# EAGLE library part 6273XX20621_62734020621 (library WR-BHD)
WR-BHD 1.27 mm Male SMT Box Header KIND PROPERTIES: Pitch 1.27 mm Gender:Male MATERIAL PROPERTIES: Insulator Material Nylon 9T Insulator Flammability Rating UL94 V-0 Insulator Color Black Contact Material Brass Contact Plating Gold over Nickel GENERAL INFORMATION: Operating Temperature -40 up to +105 °C Working Voltage 50 V (AC) Withstanding Voltage 500 V (AC) Contact Resistance 20 mΩ RISO 1000 MΩ CERTIFICATION: UL Approval E323964 <https://www.we-online.com/catalog/media/o375406v209%20Family_WR-BHD_6270xx20621.jpg> Details see: https://www.we-online.com/catalog/en/WR_BHD_1_27_MM_MALE_SMT_BOX_HEADER Created by Ella Wu 2021-08-24 2021 (C) Würth Elektronik
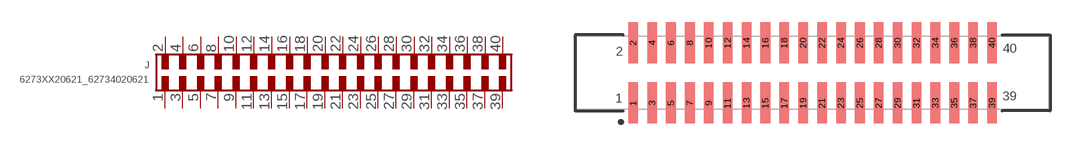
[diagram p161: symbol with the pads of 62734020621; footprint 62734020621]

Designator prefix J

## 6273XX20621_62734020621 (CONTACT-RESISTANCE: 20mOhm; DATASHEET-URL: https://www.we-online.com/redexpert/spec/62734020621?ae; GENDER: Male; IR: 1A; LENGTH: 31.75mm; MOUNT: SMT; PART-NUMBER: 62734020621; PINS: 40; PITCH: 1.27mm; TYPE: Straight; VALUE: 62734020621; WORKING-VOLTAGE: 50V(AC))  [62734020621]
1  1  pas
2  2  pas
3  3  pas
4  4  pas
5  5  pas
6  6  pas
7  7  pas
8  8  pas
9  9  pas
10  10  pas
11  11  pas
12  12  pas
13  13  pas
14  14  pas
15  15  pas
16  16  pas
17  17  pas
18  18  pas
19  19  pas
20  20  pas
21  21  pas
22  22  pas
23  23  pas
24  24  pas
25  25  pas
26  26  pas
27  27  pas
28  28  pas
29  29  pas
30  30  pas
31  31  pas
32  32  pas
33  33  pas
34  34  pas
35  35  pas
36  36  pas
37  37  pas
38  38  pas
39  39  pas
40  40  pas

## Footprint 62734020621 (pad centres in mm)
WR-BHD 1.27 mm Male SMT Box Header Pitch: 1.27mm, 40pins, SMT
smd 0.65 x 2.76: 1 -12.065,-2.02; 2 -12.065,2.02; 3 -10.795,-2.02; 4 -10.795,2.02; 5 -9.525,-2.02; 6 -9.525,2.02; 7 -8.255,-2.02; 8 -8.255,2.02; 9 -6.985,-2.02; 10 -6.985,2.02; 11 -5.715,-2.02; 12 -5.715,2.02; 13 -4.445,-2.02; 14 -4.445,2.02; 15 -3.175,-2.02; 16 -3.175,2.02; 17 -1.905,-2.02; 18 -1.905,2.02; 19 -0.635,-2.02; 20 -0.635,2.02; 21 0.635,-2.02; 22 0.635,2.02; 23 1.905,-2.02; 24 1.905,2.02; 25 3.175,-2.02; 26 3.175,2.02; 27 4.445,-2.02; 28 4.445,2.02; 29 5.715,-2.02; 30 5.715,2.02; 31 6.985,-2.02; 32 6.985,2.02; 33 8.255,-2.02; 34 8.255,2.02; 35 9.525,-2.02; 36 9.525,2.02; 37 10.795,-2.02; 38 10.795,2.02; 39 12.065,-2.02; 40 12.065,2.02